# Altium footprint library LV1.PcbLib: 45 footprints (part 2 of 3)
Each footprint in its own frame and in the unit in brackets; x right, y up, seen from the top. Pads: shape width x height; smd on the part's side, far side on the other; paste and mask are expansions set on the pad; w line width, h text height; cw(c..) or ccw(c..) is an arc to the next point about the centre after c.
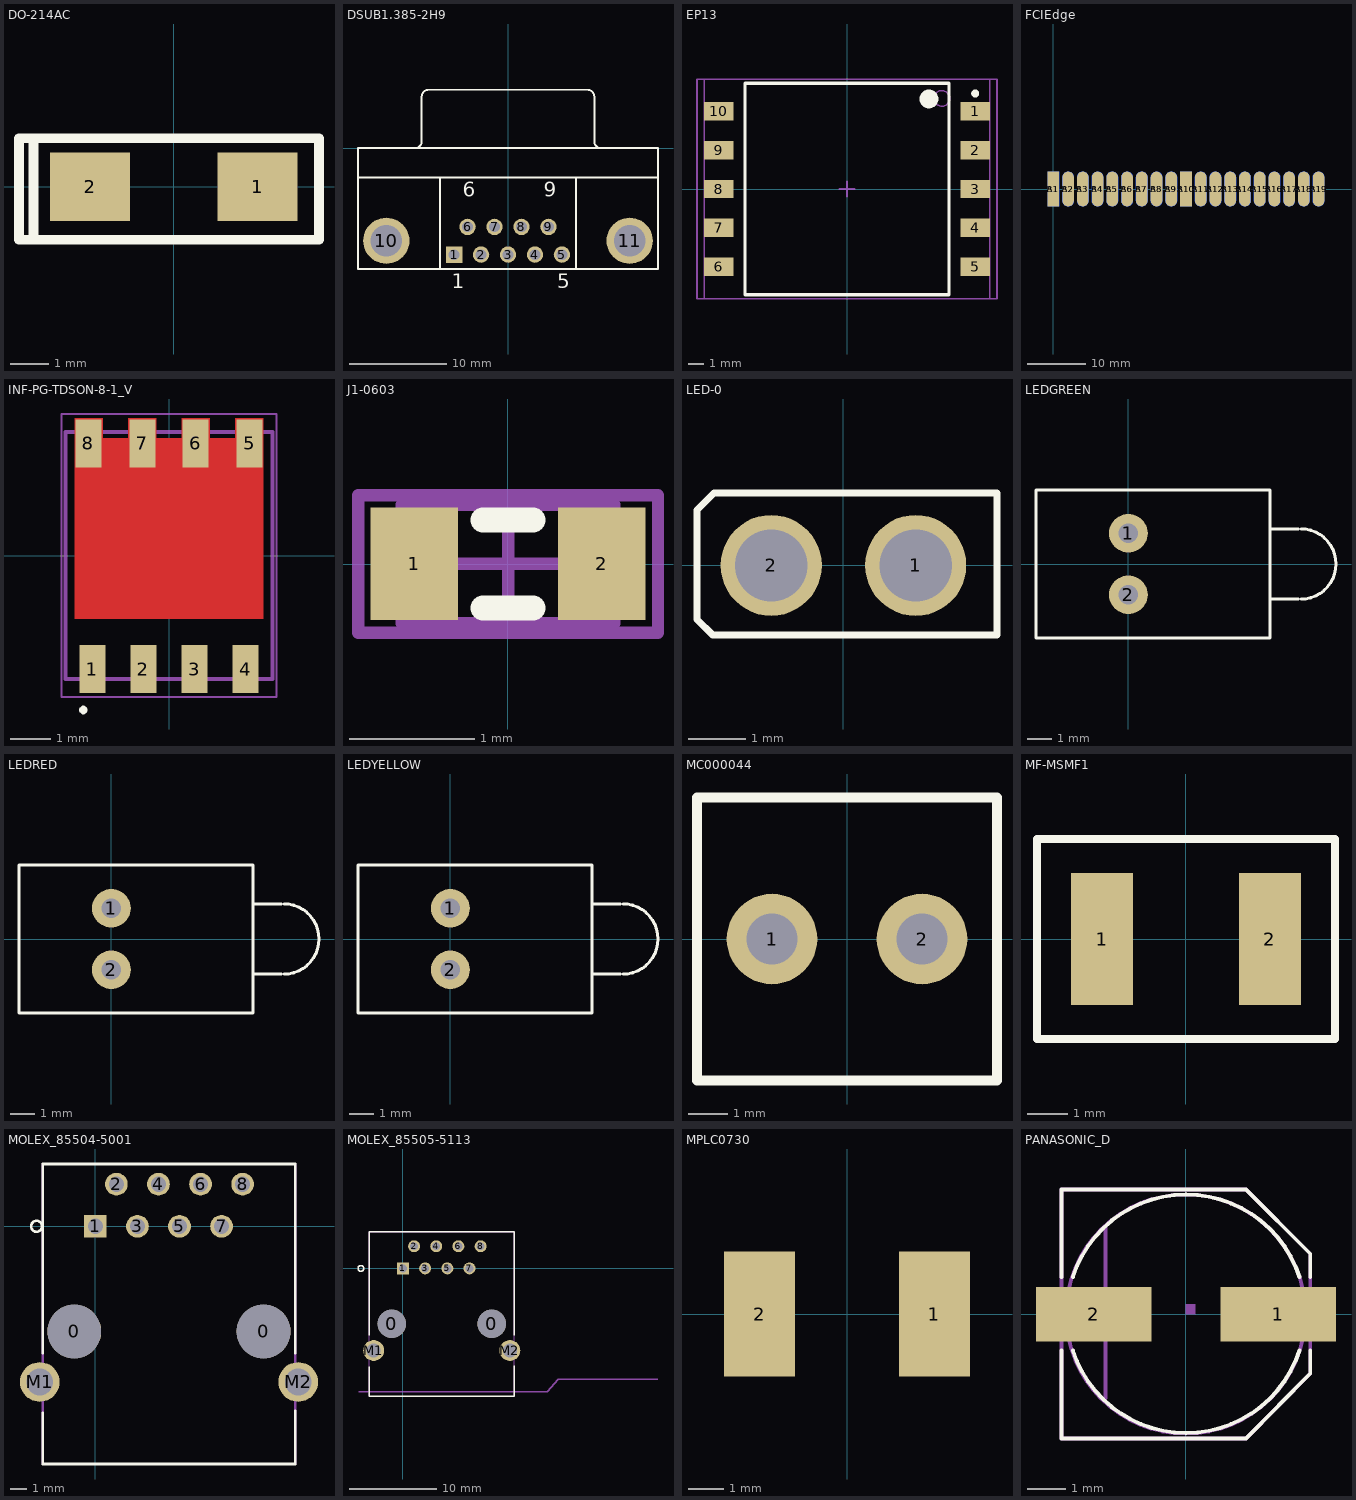
[diagram p1: the footprints below, top view; thin cyan lines are the x and y axes]

## DO-214AC [mm] "LED; 2 Leads"
height 8.6
pads (2):
  rect 2.1x1.8 smd: 1(2.2,0) 2(-2.2,0)
Top Overlay:
  lines w0.254: -3.683,-1.397 3.81,-1.397 3.81,1.27 -3.683,1.27 ; -3.683,-1.397 -3.683,1.27 ; -3.683,-1.397 -4.064,-1.397 -4.064,1.27 -3.683,1.27

## DSUB1.385-2H9 [mm] "Connector; D Subminiature; 9 Position; Right Angle; Pitch 1.385 mm"
height 12.75
pads (11):
  rect 1.69x1.69 hole 1.09: 1(-5.54,-10.92)
  round 1.69 hole 1.09: 2(-2.77,-10.92) 3(0,-10.92) 4(2.77,-10.92) 5(5.54,-10.92) 6(-4.155,-8.08) 7(-1.385,-8.08) 8(1.385,-8.08) 9(4.155,-8.08)
  round 4.76 hole 3.26: 10(-12.495,-9.5) 11(12.495,-9.5)
Top Overlay:
  lines w0.2: -15.4,-3 15.4,-3 ; -9.56,0.005 ccw(c-9.56,0.7) -8.865,0.7 -8.865,5.3 ; -8.86,5.305 cw(c-8.165,5.305) -8.165,6 8.165,6 cw(c8.165,5.305) 8.86,5.305 ; -7,-12.4 -7,-3 ; 7,-12.4 7,-3 ; 8.865,5.3 8.865,0.7 ccw(c9.56,0.7) 9.56,0.005 ; -15.4,-12.4 15.4,-12.4 15.4,0 -15.4,0 -15.4,-12.4
  text "6" at -4.655,-4.975 h1.5
  text "9" at 3.655,-4.975 h1.5
  text "5" at 5.04,-14.375 h1.5
  text "1" at -5.79,-14.375 h1.5
3D body "182-009-213.STEP": height 12.55, standoff -3.17, extent -15.278,-12.852 15.532,6.223

## EP13 [mm] "SMD, 10-Leads, Body 13.5x14.0mm (max), Pitch 2.48mm, IPC Medium Density"
height 12.7
pads (10):
  rect 1.88x1.17 smd: 1(8.18,4.96) 2(8.18,2.48) 3(8.18,0) 4(8.18,-2.48) 5(8.18,-4.96) 6(-8.18,-4.96) 7(-8.18,-2.48) 8(-8.18,0) 9(-8.18,2.48) 10(-8.18,4.96)
Top Overlay:
  circle w0.6: c5.23,5.75 r0.3
  circle w0.25: c8.18,6.095 r0.125
  lines w0.2: -6.5,-6.75 6.5,-6.75 6.5,6.75 -6.5,6.75 -6.5,-6.75
Mechanical 13:
  circle w0.1: c6.05,5.78 r0.5
  lines w0.1: -9.1,-7 9.1,-7 9.1,7 -9.1,7 -9.1,-7
Mechanical 15:
  lines w0.1: -0.5,0 0.5,0 ; 0,-0.5 0,0.5 ; -9.575,-7 9.575,-7 9.575,7 -9.575,7 -9.575,-7
3D body "WE-FB_EP13.stp": height 12.5, standoff 0, extent -8.875,-6.75 8.875,6.75

## FCIEdge [mm]
pads (38):
  rect 2x6 smd: A1(0,0) A10(22.86,0)
  oval 2x6 smd: A2(2.54,0) A3(5.08,0) A4(7.62,0) A5(10.16,0) A6(12.7,0) A7(15.24,0) A8(17.78,0) A9(20.32,0) A11(25.4,0) A12(27.94,0) A13(30.48,0) A14(33.02,0) A15(35.56,0) A16(38.1,0) A17(40.64,0) A18(43.18,0) A19(45.72,0)
  rect 2x6 smd far side: B1(0,0) B10(22.86,0)
  oval 2x6 smd far side: B2(2.54,0) B3(5.08,0) B4(7.62,0) B5(10.16,0) B6(12.7,0) B7(15.24,0) B8(17.78,0) B9(20.32,0) B11(25.4,0) B12(27.94,0) B13(30.48,0) B14(33.02,0) B15(35.56,0) B16(38.1,0) B17(40.64,0) B18(43.18,0) B19(45.72,0)

## INF-PG-TDSON-8-1_V [mm] "TDSON, 8-Leads, Body 6.15x5.15mm, Pitch 1.27mm"
height 1
pads (8):
  rect 0.65x1.2 smd: 1(-1.905,-2.825) 2(-0.635,-2.825) 3(0.635,-2.825) 4(1.905,-2.825) 5(2.007,2.794) 6(0.66,2.794) 7(-0.66,2.794) 8(-2.007,2.794)
Top Layer:
  region: 0.315,2.925 1.015,2.925 1.015,3.425 0.315,3.425
  region: -1.015,2.925 -0.315,2.925 -0.315,3.425 -1.015,3.425
  region: 1.65,2.925 2.35,2.925 2.35,3.425 1.65,3.425
  region: -2.35,2.925 -1.65,2.925 -1.65,3.425 -2.35,3.425
  region: -2.35,2.925 -2.35,-1.575 2.35,-1.575 2.35,2.925
Top Overlay:
  region: -2.234,-3.842 -2.234,-3.862 -2.218,-3.899 -2.19,-3.927 -2.153,-3.942 -2.134,-3.942 -2.114,-3.942 -2.077,-3.927 -2.049,-3.899 -2.034,-3.862 -2.034,-3.842 -2.034,-3.822 -2.049,-3.785 -2.077,-3.757 -2.114,-3.742 -2.134,-3.742 -2.153,-3.742 -2.19,-3.757 -2.218,-3.785 -2.234,-3.822
Mechanical 13:
  lines w0.1: -2.575,-3.075 2.575,-3.075 2.575,3.075 -2.575,3.075 -2.575,-3.075
Mechanical 15:
  lines w0.05: -2.675,-3.525 2.675,-3.525 2.675,3.525 -2.675,3.525 -2.675,-3.525
  lines w0.1: -0.5,0 0.5,0 ; 0,-0.5 0,0.5
3D body: height 1, standoff 0, extent -2.575,-3.075 2.575,3.075

## J1-0603 [mm] "Chip Resistor, Body 1.6x0.8mm, IPC High Density"
height 0.9
pads (2):
  rect 0.7x0.9 smd: 1(-0.75,0) 2(0.75,0)
Top Overlay:
  lines w0.2: -0.2,-0.35 0.2,-0.35 ; -0.2,0.35 0.2,0.35
Mechanical 13:
  lines w0.1: -0.85,-0.475 -0.85,0.475 0.85,0.475 0.85,-0.475 -0.85,-0.475
Mechanical 15:
  lines w0.1: -0.475,0 0.475,0 ; 0,-0.475 0,0.475 ; -1.2,-0.55 -1.2,0.55 1.2,0.55 1.2,-0.55 -1.2,-0.55
3D body: height 0.9, standoff 0, extent -0.85,-0.475 0.85,0.475

## LED-0 [mil] "LED; 2 Leads"
height 280.31
pads (2):
  round 70 hole 50: 1(50,0) 2(-50,0)
Top Overlay:
  lines w5: -101.38,-37.4 -90.55,-48.23 106.3,-48.23 106.3,50.2 -89.57,50.2 -101.38,38.39 -101.38,-37.4

## LEDGREEN [mm] "LED; 2 Leads"
pads (2):
  round 1.6 hole 0.8: 1(0,1.27) 2(0,-1.27)
Top Overlay:
  lines w0.127: 5.924,-1.45 7.024,-1.45 ; 5.924,1.45 7.024,1.45 ; 7.112,-1.45 ccw(c7.112,0) 7.112,1.45 ; -3.81,-3.048 5.842,-3.048 5.842,3.048 -3.81,3.048 -3.81,-3.048
3D body "5500407F.stp": height 5.97, standoff -3.68, extent -3.758,-3.048 8.636,2.921

## LEDRED [mm] "LED; 2 Leads"
pads (2):
  round 1.6 hole 0.8: 1(0,1.27) 2(0,-1.27)
Top Overlay:
  lines w0.127: 5.924,-1.45 7.024,-1.45 ; 5.924,1.45 7.024,1.45 ; 7.112,-1.45 ccw(c7.112,0) 7.112,1.45 ; -3.81,-3.048 -3.81,3.048 5.842,3.048 5.842,-3.048 -3.81,-3.048
3D body "5500407F_red.stp": height 5.97, standoff -3.68, extent -3.758,-3.048 8.636,2.921

## LEDYELLOW [mm] "LED; 2 Leads"
pads (2):
  round 1.6 hole 0.8: 1(0,1.27) 2(0,-1.27)
Top Overlay:
  lines w0.127: 5.924,-1.45 7.024,-1.45 ; 5.924,1.45 7.024,1.45 ; 7.112,-1.45 ccw(c7.112,0) 7.112,1.45 ; -3.81,-3.048 5.842,-3.048 5.842,3.048 -3.81,3.048 -3.81,-3.048
3D body "5500407F_yellow.stp": height 5.97, standoff -3.68, extent -3.758,-3.048 8.636,2.921

## MC000044 [mm]
height 7.12
pads (2):
  round 2.3 hole 1.3: 1(-1.905,0) 2(1.905,0)
Top Overlay:
  lines w0.254: -3.81,-3.6 3.81,-3.6 3.81,3.6 -3.81,3.6 -3.81,-3.6

## MF-MSMF1 [mm]
height 7.12
pads (2):
  rect 1.55x3.3 smd: 1(-2.1,0) 2(2.1,0)
Top Overlay:
  lines w0.2: -3.725,-2.5 3.725,-2.5 3.725,2.5 -3.725,2.5 -3.725,0 -3.725,-2.5

## MOLEX_85504-5001 [mil]
pads (12):
  round 128 hole 128: 0(-50,-250) 0(400,-250)
  rect 54x54 hole 36: 1(0,0)
  round 54 hole 36: 2(50,100) 3(100,0) 4(150,100) 5(200,0) 6(250,100) 7(300,0) 8(350,100)
  round 94.5 hole 63: M1(-131.89,-370.08) M2(482,-370.08)
Top Overlay:
  circle w6: c-139.76,0 r13
  lines w6: -125,-442.91 -125,-564.96 475,-564.96 475,-438.98 ; -125,-301.18 -125,148 -118.11,148 ; -120.08,148 -118.11,148 ; 475,-301.18 475,148 -118.11,148
Mechanical 2:
  text ">Name" at 44,180 h77.5
Mechanical 4:
  text ">Value" at 56,-637.8 h77.5
Mechanical 16:
  lines w5: -125,-564.96 475,-564.96 475,148 -125,148 -125,-564.96
3D body "855055113.stp": height 511.81, standoff -129.92, extent -156.77,-580.16 496.77,160

## MOLEX_85505-5113 [mil]
pads (12):
  round 128 hole 128: 0(-50,-250) 0(400,-250)
  rect 54x54 hole 36: 1(0,0)
  round 54 hole 36: 2(50,100) 3(100,0) 4(150,100) 5(200,0) 6(250,100) 7(300,0) 8(350,100)
  round 94.5 hole 63: M1(-131.89,-370.08) M2(482,-370.08)
Top Overlay:
  circle w6: c-189.76,0 r13
  lines w6: -151.77,-442.91 -151.77,-575.98 502,-575.98 502,-438.98 ; -151.77,-301.18 -151.77,165 -118.11,165 502,165 502,-301.18
Mechanical 2:
  text ">Name" at 44,180 h77.5
Mechanical 4:
  text ">Value" at 56,-637.8 h77.5
Mechanical 14:
  lines w6: -200,-557.09 650,-557.09 700,-500 1150,-500
  text "PCB Edge" at 750,-500 h77.5
Mechanical 16:
  lines w5: -151.77,-575.98 -151.77,165 502,165 502,-575.98 -151.77,-575.98
3D body "855055113.stp": height 511.81, standoff -129.92, extent -148.54,-580.08 505,160.08

## MPLC0730 [mm]
height 7.12
pads (2):
  rect 2x3.5 smd: 1(2.45,0) 2(-2.45,0)
3D body: height 2, standoff 0, extent -3.175,-2.667 3.175,2.794

## PANASONIC_D [mil]
height 280.31
pads (2):
  rect 119x56 smd: 1(95,0) 2(-94.49,0)
Top Overlay:
  lines w4: -127.95,-37.4 -127.95,-127.95 62,-127.95 128,-61.02 128,-37.4 ; -127.95,38 -127.95,128 62,128 128,62 128,38 ; -116.14,-37.4 ccw(c0.43,0.14) 117,-37.4 ; -116.14,38 cw(c0.43,0.46) 117,38
Mechanical 16:
  circle w4: c0,0 r123
  rectangle: -143.7,-13.78 -120.08,14
  rectangle: 121,-13.78 144,14
  region: 0,0 10,0 10,10 0,10
  lines w4: -82.68,-86.61 -82.68,89 ; -127.95,-127.95 62,-127.95 128,-61.02 128,62 62,128 -127.95,128 -127.95,-127.95
3D body: height 236.22, standoff 39.37, extent -119.68,-117.88 115.61,117.88
3D body: height 39.37, standoff 0, extent -130,-125 125,125